# EAGLE library part TPS6122X (library mes)
Texas Instruments TPS6122x Low Input Voltage Step-up Converter Reference: http://focus.ti.com/docs/prod/folders/print/tps61220.html
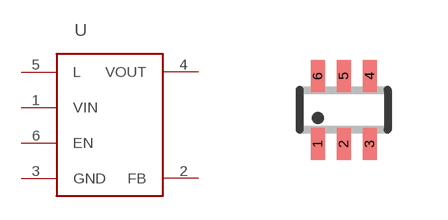
[diagram p1: symbol with the pads of SC70-6L; footprint SC70-6L]

Designator prefix -

## TPS6122X  [SC70-6L]
1  VIN  pwr
2  FB
3  GND  pwr
4  VOUT  pwr
5  L
6  EN

## Footprint SC70-6L (pad centres in mm)
SC-70 Package
smd 0.35 x 0.8: 1 -0.65,-0.85; 2 0,-0.85; 3 0.65,-0.85; 4 0.65,0.85; 5 0,0.85; 6 -0.65,0.85